# Altium footprint library ESQ-104-Y-X-D.PcbLib: 1 footprints
Each footprint in its own frame and in the unit in brackets; x right, y up, seen from the top. Pads: shape width x height; smd on the part's side, far side on the other; paste and mask are expansions set on the pad; w line width, h text height; cw(c..) or ccw(c..) is an arc to the next point about the centre after c.
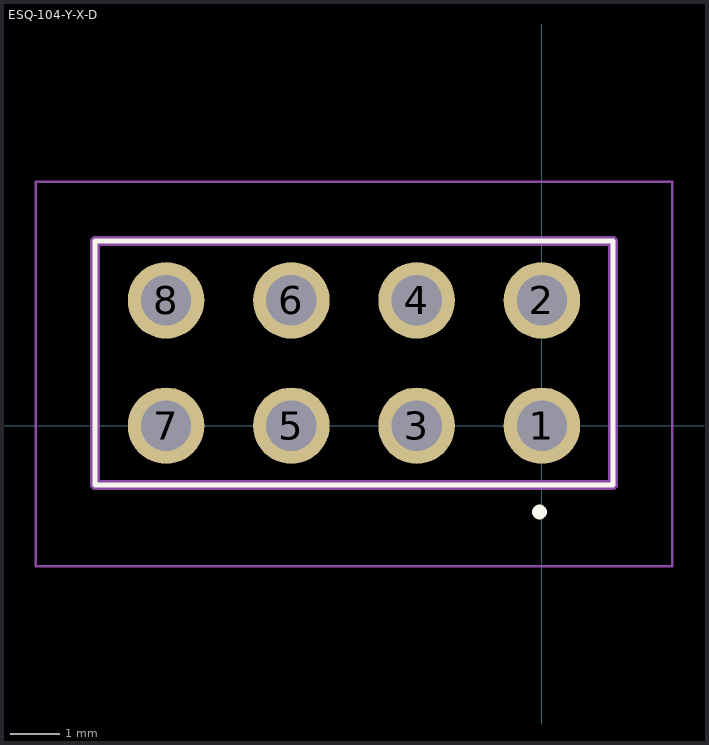
[diagram p0: the footprint, top view; thin cyan lines are the x and y axes]

## ESQ-104-Y-X-D [mm]
pads (8):
  round 1.55 hole 1.02: 1(0,0) 2(0,2.54) 3(-2.54,0) 4(-2.54,2.54) 5(-5.08,0) 6(-5.08,2.54) 7(-7.62,0) 8(-7.62,2.54)
Top Overlay:
  circle w0.2: c-0.05,-1.75 r0.05
  lines w0.1: -9.06,-1.205 1.44,-1.205 1.44,3.745 -9.06,3.745 -9.06,-1.205
Mechanical 15:
  lines w0.2: -9.06,-1.205 1.44,-1.205 1.44,3.745 -9.06,3.745 -9.06,-1.205
Mechanical 20:
  lines w0.05: -10.26,-2.85 2.64,-2.85 2.64,4.945 -10.26,4.945 -10.26,-2.85